# EAGLE library part HELTEC_LORA_V2 (library Heltec_Lora_v2)
Heltec esp32 LoRa V2 libraries This libraries is made for Heltec Esp32 LoRa Entire Board and also this is my first time design but it's work fine for me :) Contact info : cartoonpiboon@gmail.com <url>
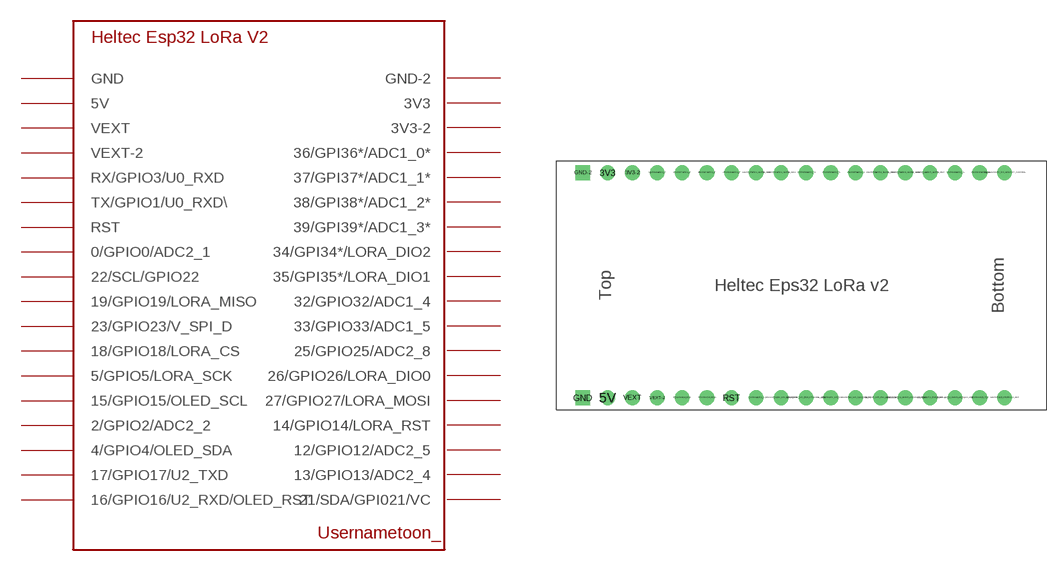
[diagram p0: symbol with the pads of HELTEC_LORA_V2; footprint HELTEC_LORA_V2]

Designator prefix -

## HELTEC_LORA_V2THROUGH_HOLES  [HELTEC_LORA_V2]
0/GPIO0/ADC2_1  0/GPIO0/ADC2_1
2/GPIO2/ADC2_2/HSPI_WP  2/GPIO2/ADC2_2
3V3  3V3
3V3-2  3V3-2
4/GPIO4/ADC2_0/HSPI_HD/OLED_SDA  4/GPIO4/OLED_SDA
5/GPIO5/V_SPI_CSO_LORA_SCK  5/GPIO5/LORA_SCK
5V  5V
12/GPIO12/ADC2_5  12/GPIO12/ADC2_5
13/GPIO13/ADC2_4  13/GPIO13/ADC2_4
14/GPIO14/ADC2_6/LORA_RST  14/GPIO14/LORA_RST
15/GPIO15/ADC2_3/HSPI_CSO/OLED_SCL  15/GPIO15/OLED_SCL
16/GPIO16/U2_RXD/OLED_RST  16/GPIO16/U2_RXD/OLED_RST
17/GPIO17/U2_TXD  17/GPIO17/U2_TXD
18/GPIO18/V_SPI_CLK/LORA_CS  18/GPIO18/LORA_CS
19/GPIO19/V_SPI_Q/U0_CTS/LORA_MISO  19/GPIO19/LORA_MISO
21/SDA/GPI024/V_SPI_HD/VEXT_CONTROL  21/SDA/GPI021/VC
22/SCLGPIO22/V_SPI_WP/U0_RTS  22/SCL/GPIO22
23/GPIO23/V_SPI_D  23/GPIO23/V_SPI_D
25/GPIO25/ADC2_8  25/GPIO25/ADC2_8
26/GPIO26/ADC2_9/LORA_DIO0  26/GPIO26/LORA_DIO0
27/GPIO27/ADC2_7/LORA_MOSI  27/GPIO27/LORA_MOSI
32/GPIO32/ADC1_4  32/GPIO32/ADC1_4
33/GPIO33/ADC1_5  33/GPIO33/ADC1_5
34/GPI34*/ADC1_6/LORA_DIO2  34/GPI34*/LORA_DIO2
35/GPI35*/ADC1_7/LORA_DIO1  35/GPI35*/LORA_DIO1
36/GPI36*/ADC1_0*  36/GPI36*/ADC1_0*
37/GPI37*/ADC1_1*  37/GPI37*/ADC1_1*
38/GPI38*/ADC1_2*  38/GPI38*/ADC1_2*
39/GPI39*/ADC1_3*  39/GPI39*/ADC1_3*
GND  GND
GND-2  GND-2
RST  RST
RX/GPIO3/U0_RXD  RX/GPIO3/U0_RXD
TX/GPIO1/U0_RXD\  TX/GPIO1/U0_RXD\
VEXT  VEXT
VEXT-2  VEXT-2

## Footprint HELTEC_LORA_V2 (pad centres in mm)
drill 0.9 pad 1.5: 0/GPIO0/ADC2_1 20.46,1.237; 2/GPIO2/ADC2_2/HSPI_WP 38.26,1.237; 3V3 5.24,24.263; 3V3-2 7.78,24.263; 4/GPIO4/ADC2_0/HSPI_HD/OLED_SDA 40.8,1.237; 5/GPIO5/V_SPI_CSO_LORA_SCK 33.18,1.237; 5V 5.24,1.237; 12/GPIO12/ADC2_5 40.8,24.263; 13/GPIO13/ADC2_4 43.34,24.263; 14/GPIO14/ADC2_6/LORA_RST 38.26,24.263; 15/GPIO15/ADC2_3/HSPI_CSO/OLED_SCL 35.72,1.237; 16/GPIO16/U2_RXD/OLED_RST 45.88,1.237; 17/GPIO17/U2_TXD 43.34,1.237; 18/GPIO18/V_SPI_CLK/LORA_CS 30.64,1.237; 19/GPIO19/V_SPI_Q/U0_CTS/LORA_MISO 25.56,1.237; 21/SDA/GPI024/V_SPI_HD/VEXT_CONTROL 45.88,24.263; 22/SCLGPIO22/V_SPI_WP/U0_RTS 23.02,1.237; 23/GPIO23/V_SPI_D 28.1,1.237; 25/GPIO25/ADC2_8 30.64,24.263; 26/GPIO26/ADC2_9/LORA_DIO0 33.18,24.263; 27/GPIO27/ADC2_7/LORA_MOSI 35.72,24.263; 32/GPIO32/ADC1_4 25.56,24.263; 33/GPIO33/ADC1_5 28.1,24.263; 34/GPI34*/ADC1_6/LORA_DIO2 20.46,24.263; 35/GPI35*/ADC1_7/LORA_DIO1 23.02,24.263; 36/GPI36*/ADC1_0* 10.32,24.263; 37/GPI37*/ADC1_1* 12.86,24.263; 38/GPI38*/ADC1_2* 15.4,24.263; 39/GPI39*/ADC1_3* 17.94,24.263; RST 17.94,1.237; RX/GPIO3/U0_RXD 12.86,1.237; TX/GPIO1/U0_RXD\ 15.4,1.237; VEXT 7.78,1.237; VEXT-2 10.32,1.237
drill 0.9 pad 1.5 square: GND 2.7,1.237; GND-2 2.7,24.263